# EAGLE library part 4R50P (library con-harting)
CONNECTOR
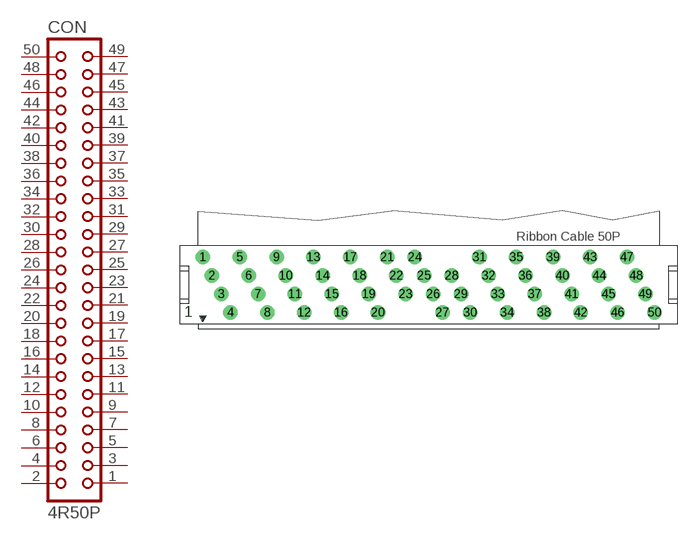
[diagram p25: symbol with the pads of 4R50P; footprint 4R50P]

Designator prefix CON

## 4R50P  [4R50P]
1  1  pas
2  2  pas
3  3  pas
4  4  pas
5  5  pas
6  6  pas
7  7  pas
8  8  pas
9  9  pas
10  10  pas
11  11  pas
12  12  pas
13  13  pas
14  14  pas
15  15  pas
16  16  pas
17  17  pas
18  18  pas
19  19  pas
20  20  pas
21  21  pas
22  22  pas
23  23  pas
24  24  pas
25  25  pas
26  26  pas
27  27  pas
28  28  pas
29  29  pas
30  30  pas
31  31  pas
32  32  pas
33  33  pas
34  34  pas
35  35  pas
36  36  pas
37  37  pas
38  38  pas
39  39  pas
40  40  pas
41  41  pas
42  42  pas
43  43  pas
44  44  pas
45  45  pas
46  46  pas
47  47  pas
48  48  pas
49  49  pas
50  50  pas

## Footprint 4R50P (pad centres in mm)
CONNECTOR
drill 0.813 pad 2 round: 1 -31.115,3.81; 2 -29.845,1.27; 3 -28.575,-1.27; 4 -27.305,-3.81; 5 -26.035,3.81; 6 -24.765,1.27; 7 -23.495,-1.27; 8 -22.225,-3.81; 9 -20.955,3.81; 10 -19.685,1.27; 11 -18.415,-1.27; 12 -17.145,-3.81; 13 -15.875,3.81; 14 -14.605,1.27; 15 -13.335,-1.27; 16 -12.065,-3.81; 17 -10.795,3.81; 18 -9.525,1.27; 19 -8.255,-1.27; 20 -6.985,-3.81; 21 -5.715,3.81; 22 -4.445,1.27; 23 -3.175,-1.27; 24 -1.905,3.81; 25 -0.635,1.27; 26 0.635,-1.27; 27 1.905,-3.81; 28 3.175,1.27; 29 4.445,-1.27; 30 5.715,-3.81; 31 6.985,3.81; 32 8.255,1.27; 33 9.525,-1.27; 34 10.795,-3.81; 35 12.065,3.81; 36 13.335,1.27; 37 14.605,-1.27; 38 15.875,-3.81; 39 17.145,3.81; 40 18.415,1.27; 41 19.685,-1.27; 42 20.955,-3.81; 43 22.225,3.81; 44 23.495,1.27; 45 24.765,-1.27; 46 26.035,-3.81; 47 27.305,3.81; 48 28.575,1.27; 49 29.845,-1.27; 50 31.115,-3.81